# Altium footprint library PCB - CONNECTOR - SAMTEC IPL1-108-01-L-D-RA-K.PCBLIB: 1 footprints
Each footprint in its own frame and in the unit in brackets; x right, y up, seen from the top. Pads: shape width x height; smd on the part's side, far side on the other; paste and mask are expansions set on the pad; w line width, h text height; cw(c..) or ccw(c..) is an arc to the next point about the centre after c.
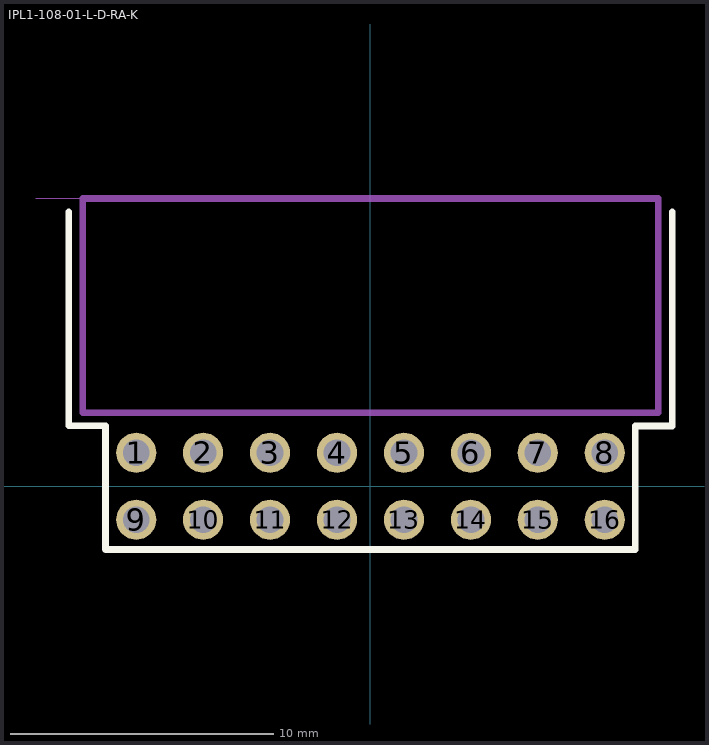
[diagram p0: the footprint, top view; thin cyan lines are the x and y axes]

## IPL1-108-01-L-D-RA-K [mil]
pads (16):
  round 60 hole 40 mask+3: 1(-350,50) 2(-250,50) 3(-150,50) 4(-50,50) 5(50,50) 6(150,50) 7(250,50) 8(350,50) 9(-350,-50) 10(-250,-50) 11(-150,-50) 12(-50,-50) 13(50,-50) 14(150,-50) 15(250,-50) 16(350,-50)
Top Overlay:
  lines w10: -450.79,410 -450.79,90.55 -395.79,90.55 -395.79,-94.49 395.79,-94.49 395.79,90 450.79,90 450.79,410
M5 Assembly Top:
  lines w10: -430,110 430,110 430,430 -430,430 -430,110
  text ".Designator" at -82.68,173.23 h60
Mechanical 16:
  lines w0.1: -500,430 300,430
3D body "IPL1-108-01-F-D-RA-K.stp": height 310, standoff -85, extent -430,-58.32 430,434.18